# EAGLE library part M-2X10- (library con-headers-jp)
MALE HEADER
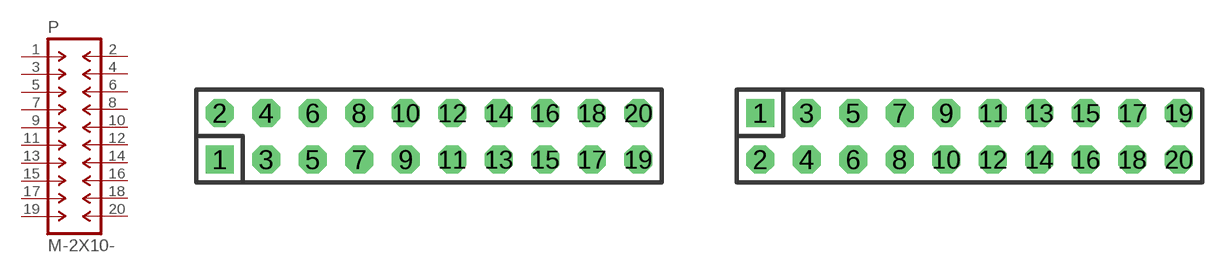
[diagram p67: symbol with the pads of DIL-100-2X10; footprints DIL-100-2X10, DIL-100-2X10_M]

Designator prefix P

## M-2X10-DIL-100  [DIL-100-2X10]
1  1  pas
2  2  pas
3  3  pas
4  4  pas
5  5  pas
6  6  pas
7  7  pas
8  8  pas
9  9  pas
10  10  pas
11  11  pas
12  12  pas
13  13  pas
14  14  pas
15  15  pas
16  16  pas
17  17  pas
18  18  pas
19  19  pas
20  20  pas

## M-2X10-DIL-100_M  [DIL-100-2X10_M]
Pads as for DIL-100-2X10

## M-2X10-DIL-2MM  [DIL-2MM-2X10]
Pads as for DIL-100-2X10

## M-2X10-DIL-2MM_M  [DIL-2MM-2X10_M]
Pads as for DIL-100-2X10

## M-2X10-87759  [87759-20]
Pads as for DIL-100-2X10

## M-2X10-87759_M  [87759-20_M]
Pads as for DIL-100-2X10

## Footprint DIL-100-2X10 (pad centres in mm)
PIN HEADER - 0.1"
drill 1.016 square: 1 -11.43,-1.27
drill 1.016 octagon: 2 -11.43,1.27; 3 -8.89,-1.27; 4 -8.89,1.27; 5 -6.35,-1.27; 6 -6.35,1.27; 7 -3.81,-1.27; 8 -3.81,1.27; 9 -1.27,-1.27; 10 -1.27,1.27; 11 1.27,-1.27; 12 1.27,1.27; 13 3.81,-1.27; 14 3.81,1.27; 15 6.35,-1.27; 16 6.35,1.27; 17 8.89,-1.27; 18 8.89,1.27; 19 11.43,-1.27; 20 11.43,1.27

## Footprint DIL-100-2X10_M (pad centres in mm)
PIN HEADER - MIRRORED 0.1"
drill 1.016 square: 1 -11.43,1.27
drill 1.016 octagon: 2 -11.43,-1.27; 3 -8.89,1.27; 4 -8.89,-1.27; 5 -6.35,1.27; 6 -6.35,-1.27; 7 -3.81,1.27; 8 -3.81,-1.27; 9 -1.27,1.27; 10 -1.27,-1.27; 11 1.27,1.27; 12 1.27,-1.27; 13 3.81,1.27; 14 3.81,-1.27; 15 6.35,1.27; 16 6.35,-1.27; 17 8.89,1.27; 18 8.89,-1.27; 19 11.43,1.27; 20 11.43,-1.27

## Footprint DIL-2MM-2X10 (pad centres in mm)
PIN HEADER - 2MM"
drill 0.711 square: 1 -9,-1
drill 0.711 round: 2 -9,1; 3 -7,-1; 4 -7,1; 5 -5,-1; 6 -5,1; 7 -3,-1; 8 -3,1; 9 -1,-1; 10 -1,1; 11 1,-1; 12 1,1; 13 3,-1; 14 3,1; 15 5,-1; 16 5,1; 17 7,-1; 18 7,1; 19 9,-1; 20 9,1

## Footprint DIL-2MM-2X10_M (pad centres in mm)
PIN HEADER - MIRRORED 2MM
drill 0.711 square: 1 -9,1
drill 0.711 round: 2 -9,-1; 3 -7,1; 4 -7,-1; 5 -5,1; 6 -5,-1; 7 -3,1; 8 -3,-1; 9 -1,1; 10 -1,-1; 11 1,1; 12 1,-1; 13 3,1; 14 3,-1; 15 5,1; 16 5,-1; 17 7,1; 18 7,-1; 19 9,1; 20 9,-1

## Footprint 87759-20 (pad centres in mm)
Molex PCB Pin Headers 2.00mm (.079") Pitch Milli-Grid Header, Vertical SMD
smd 1 x 2.75: 1 -9,-2.15; 2 -9,2.15; 3 -7,-2.15; 4 -7,2.15; 5 -5,-2.15; 6 -5,2.15; 7 -3,-2.15; 8 -3,2.15; 9 -1,-2.15; 10 -1,2.15; 11 1,-2.15; 12 1,2.15; 13 3,-2.15; 14 3,2.15; 15 5,-2.15; 16 5,2.15; 17 7,-2.15; 18 7,2.15; 19 9,-2.15; 20 9,2.15
hole 1 at -8,0
hole 1 at 8,0

## Footprint 87759-20_M (pad centres in mm)
Molex PCB Pin Headers - MIRRORED PADS 2.00mm (.079") Pitch Milli-Grid Header, Vertical SMD
smd 1 x 2.75: 1 -9,2.15; 2 -9,-2.15; 3 -7,2.15; 4 -7,-2.15; 5 -5,2.15; 6 -5,-2.15; 7 -3,2.15; 8 -3,-2.15; 9 -1,2.15; 10 -1,-2.15; 11 1,2.15; 12 1,-2.15; 13 3,2.15; 14 3,-2.15; 15 5,2.15; 16 5,-2.15; 17 7,2.15; 18 7,-2.15; 19 9,2.15; 20 9,-2.15
hole 1 at -8,0
hole 1 at 8,0